# Altium schematic symbol library 7seg.SchLib: 1 symbol
Pins are listed as number, name and electrical type; pins without a type are passive.

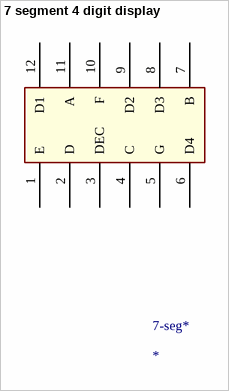
[diagram p0: symbol 7 segment 4 digit display]

## 7 segment 4 digit display
designator 7-seg*
footprint PCBComponent_1
pins: 1 E, 2 D, 3 DEC, 4 C, 5 G, 6 D4, 7 B, 8 D3, 9 D2, 10 F, 11 A, 12 D1